# EAGLE library part RJ-12_CONN (library F030NG)
RJ11 6 connects Source: YH-55-10.pdf
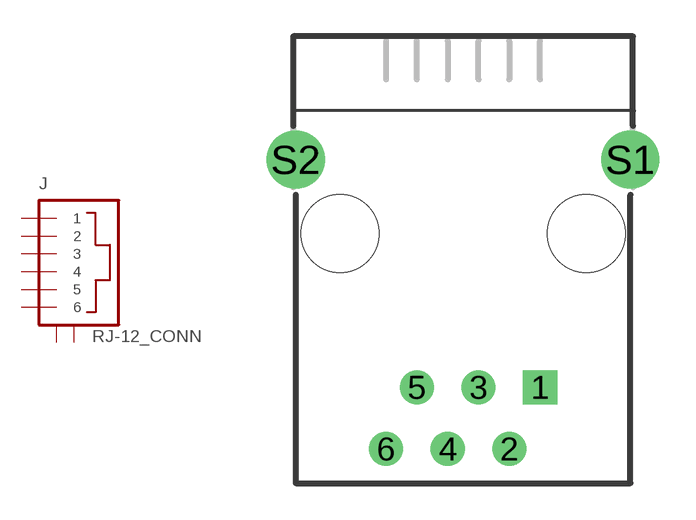
[diagram p50: symbol with the pads of TE_RJ12GE-AMP; footprint TE_RJ12GE-AMP]

Designator prefix J

## RJ-12_CONN (OC_FARNELL: unknown; OC_NEWARK: unknown)  [TE_RJ12GE-AMP]
1  1  pas
2  2  pas
3  3  pas
4  4  pas
5  5  pas
6  6  pas
S1  S  pas
S2  S  pas

## Footprint TE_RJ12GE-AMP (pad centres in mm)
RJ12 6c6p
drill 0.9 square: 1 3.175,-3.81
drill 0.9: 2 1.905,-6.35; 3 0.635,-3.81; 4 -0.635,-6.35; 5 -1.905,-3.81; 6 -3.175,-6.35
drill 1.6 pad 2.184: S1 6.9,5.59; S2 -6.9,5.59
hole 3.2 at 5.08,2.54
hole 3.2 at -5.08,2.54